# EAGLE library part 78253J (library OpenMotics)
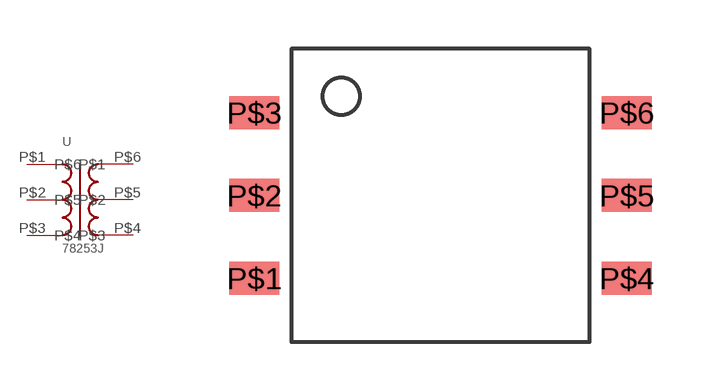
[diagram p16: symbol with the pads of 78253J; footprint 78253J]

Designator prefix U

## 78253J  [78253J]
P$1  P$1
P$2  P$2
P$3  P$3
P$4  P$4
P$5  P$5
P$6  P$6

## Footprint 78253J (pad centres in mm)
smd 1.524 x 1.016: P$1 -5.715,-2.54; P$2 -5.715,0; P$3 -5.715,2.54; P$4 5.715,-2.54; P$5 5.715,0; P$6 5.715,2.54